# Altium schematic symbol library Components - 19.06.23 - 19.04.SchLib: 1 symbol
Pins are listed as number, name and electrical type; pins without a type are passive.

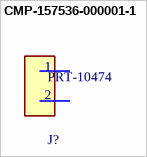
[diagram p0: symbol CMP-157536-000001-1]

## CMP-157536-000001-1
designator J?, comment PRT-10474
XT60 CONNECTORS MALE/FEMALE PAIR
footprint FP-PRT-10474-MFG
text: 1; 2